# Altium footprint library PAN172X.PcbLib: 1 footprints
Each footprint in its own frame and in the unit in brackets; x right, y up, seen from the top. Pads: shape width x height; smd on the part's side, far side on the other; paste and mask are expansions set on the pad; w line width, h text height; cw(c..) or ccw(c..) is an arc to the next point about the centre after c.
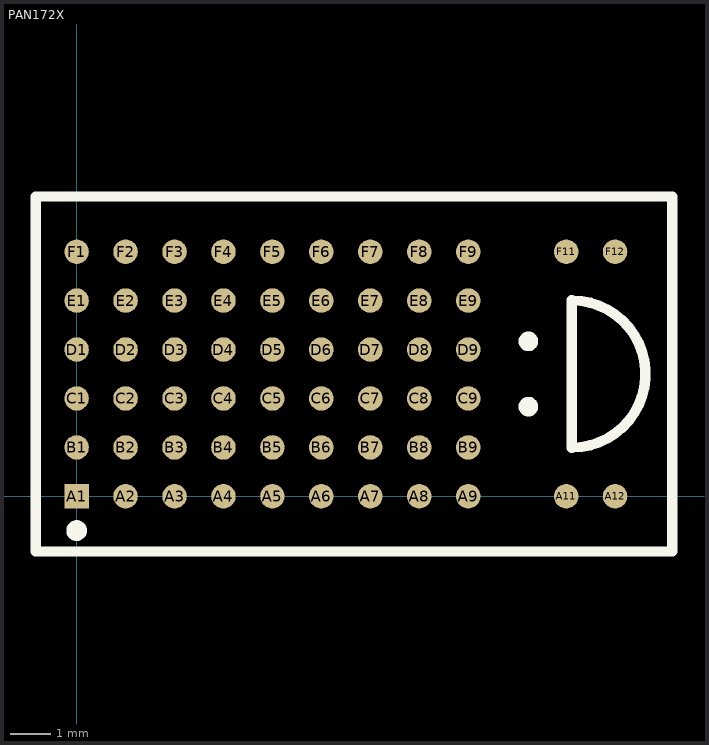
[diagram p0: the footprint, top view; thin cyan lines are the x and y axes]

## PAN172X [mm] "Bluetooth LE Module w/ Antenna"
height 1.8
pads (58):
  rect 0.6x0.6 smd: A1(0,0)
  round 0.6 smd: A2(1.2,0) A3(2.4,0) A4(3.6,0) A5(4.8,0) A6(6,0) A7(7.2,0) A8(8.4,0) A9(9.6,0) A11(12,0) A12(13.2,0) B1(0,1.2) B2(1.2,1.2) B3(2.4,1.2) B4(3.6,1.2) B5(4.8,1.2) B6(6,1.2) B7(7.2,1.2) B8(8.4,1.2) B9(9.6,1.2) C1(0,2.4) C2(1.2,2.4) C3(2.4,2.4) C4(3.6,2.4) C5(4.8,2.4) C6(6,2.4) C7(7.2,2.4) C8(8.4,2.4) C9(9.6,2.4) D1(0,3.6) D2(1.2,3.6) D3(2.4,3.6) D4(3.6,3.6) D5(4.8,3.6) D6(6,3.6) D7(7.2,3.6) D8(8.4,3.6) D9(9.6,3.6) E1(0,4.8) E2(1.2,4.8) E3(2.4,4.8) E4(3.6,4.8) E5(4.8,4.8) E6(6,4.8) E7(7.2,4.8) E8(8.4,4.8) E9(9.6,4.8) F1(0,6) F2(1.2,6) F3(2.4,6) F4(3.6,6) F5(4.8,6) F6(6,6) F7(7.2,6) F8(8.4,6) F9(9.6,6) F11(12,6) F12(13.2,6)
Top Overlay:
  circle w0.254: c0,-0.838 r0.127
  circle w0.254: c11.074,3.8 r0.114
  circle w0.254: c11.074,2.2 r0.114
  lines w0.254: 12.141,1.194 12.141,4.801 ; 12.141,1.196 ccw(c12.141,3) 12.141,4.804 ; -1,-1.35 -1,7.35 14.6,7.35 14.6,-1.35 -1,-1.35
3D body: height 1.8, standoff 0, extent -1.127,-1.477 14.727,7.477